# Altium footprint library 1206 Capacitor.PcbLib: 1 footprints
Each footprint in its own frame and in the unit in brackets; x right, y up, seen from the top. Pads: shape width x height; smd on the part's side, far side on the other; paste and mask are expansions set on the pad; w line width, h text height; cw(c..) or ccw(c..) is an arc to the next point about the centre after c.
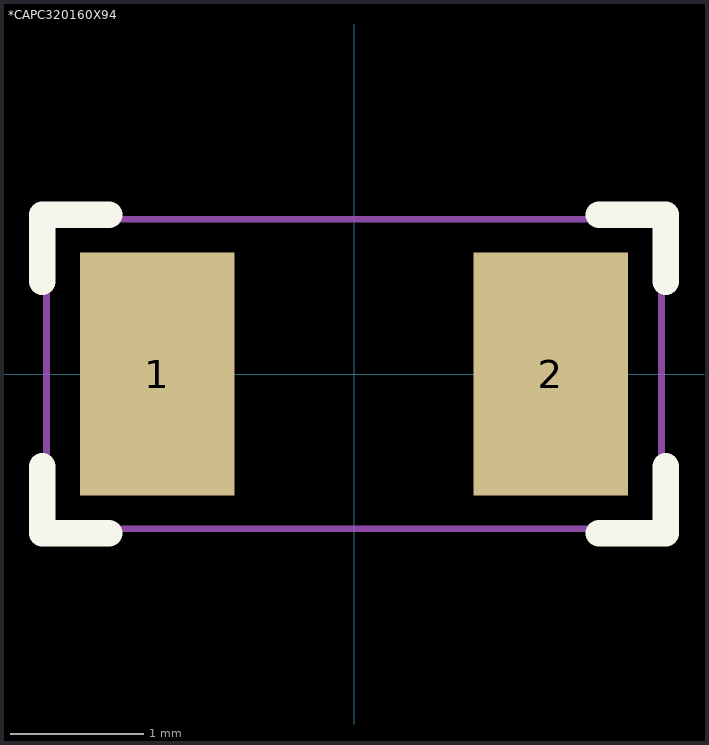
[diagram p0: the footprint, top view; thin cyan lines are the x and y axes]

## *CAPC320160X94 [mm]
pads (2):
  rect 1.16x1.82 smd: 1(-1.475,0) 2(1.475,0)
Top Overlay:
  lines w0.2: -2.336,-0.693 -2.336,-1.193 -1.836,-1.193 ; -2.336,0.693 -2.336,1.193 -1.836,1.193 ; 1.836,-1.193 2.336,-1.193 2.336,-0.693 ; 1.836,1.193 2.336,1.193 2.336,0.693
Mechanical 4:
  lines w0.127: -1.6,-0.8 -1.6,0.8 -1.6,-0.8 ; 1.6,-0.8 1.6,0.8 1.6,-0.8
Mechanical 16:
  lines w0.05: -2.305,-1.16 -2.305,1.16 2.305,1.16 2.305,-1.16 -2.305,-1.16
3D body "CAPC1206 v2.step": height 1, standoff 0, extent -1.6,-0.8 1.6,0.8